# Altium schematic symbol library FJ3461BH.SchLib: 1 symbol
Pins are listed as number, name and electrical type; pins without a type are passive.

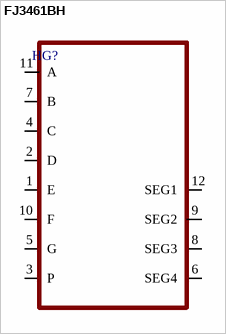
[diagram p0: symbol FJ3461BH]

## FJ3461BH
designator HG?
pins: 1 E, 2 D, 3 P, 4 C, 5 G, 6 SEG4, 7 B, 8 SEG3, 9 SEG2, 10 F, 11 A, 12 SEG1